# Altium schematic symbol library Transformer_ETD59_2.SchLib: 1 symbol
Pins are listed as number, name and electrical type; pins without a type are passive.

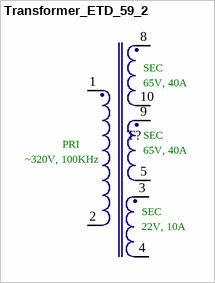
[diagram p0: symbol Transformer_ETD_59_2]

## Transformer_ETD_59_2
designator T?, comment ETD-59_2  (value not drawn)
footprint Transformer_ETD59_2
pins: 1, 2, 3, 4, 5, 8, 9, 10
text: SEC; 65V, 40A; PRI; ~320V, 100KHz; 22V, 10A